# EAGLE library part SST25VF020B804ISA (library GreenFuel)
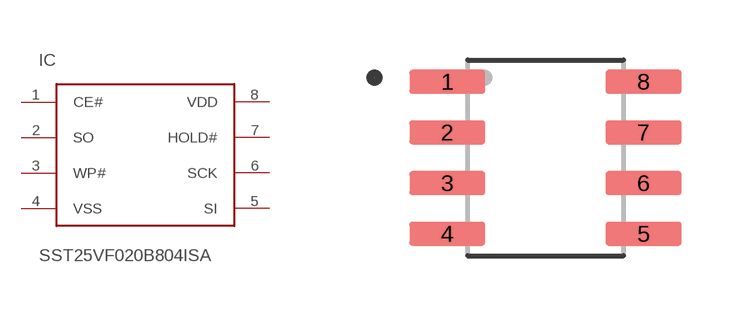
[diagram p3: symbol with the pads of SOIC127P600X175-8N; footprint SOIC127P600X175-8N]

Designator prefix IC

## SST25VF020B804ISA  [SOIC127P600X175-8N]
1  CE#  in
2  SO  out
3  WP#  in
4  VSS  pwr
5  SI  in
6  SCK  in
7  HOLD#  in
8  VDD  pwr

## Footprint SOIC127P600X175-8N (pad centres in mm)
smd 1.9 x 0.6: 1 -2.455,1.905; 2 -2.455,0.635; 3 -2.455,-0.635; 4 -2.455,-1.905; 5 2.455,-1.905; 6 2.455,-0.635; 7 2.455,0.635; 8 2.455,1.905